# EAGLE library part CHRONODOT (library flupes)
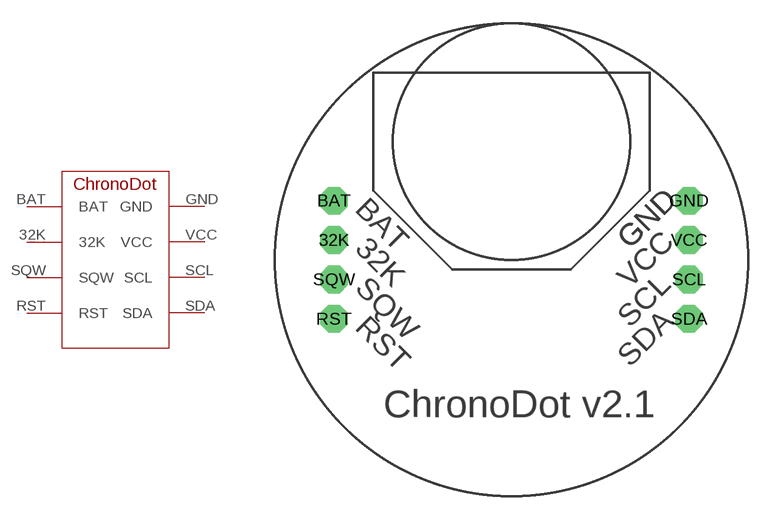
[diagram p1: symbol with the pads of CHRONODOT_RECEIVER; footprint CHRONODOT_RECEIVER]

Designator prefix -

## CHRONODOT  [CHRONODOT_RECEIVER]
32K  32K
BAT  BAT
GND  GND
RST  RST
SCL  SCL
SDA  SDA
SQW  SQW
VCC  VCC

## Footprint CHRONODOT_RECEIVER (pad centres in mm)
drill 1.016 pad 1.778 octagon: 32K -11.43,1.27; BAT -11.43,3.81; GND 11.43,3.81; RST -11.43,-3.81; SCL 11.43,-1.27; SDA 11.43,-3.81; SQW -11.43,-1.27; VCC 11.43,1.27